# EAGLE library part PIC32MX2XX_44 (library SchmalzHaus)
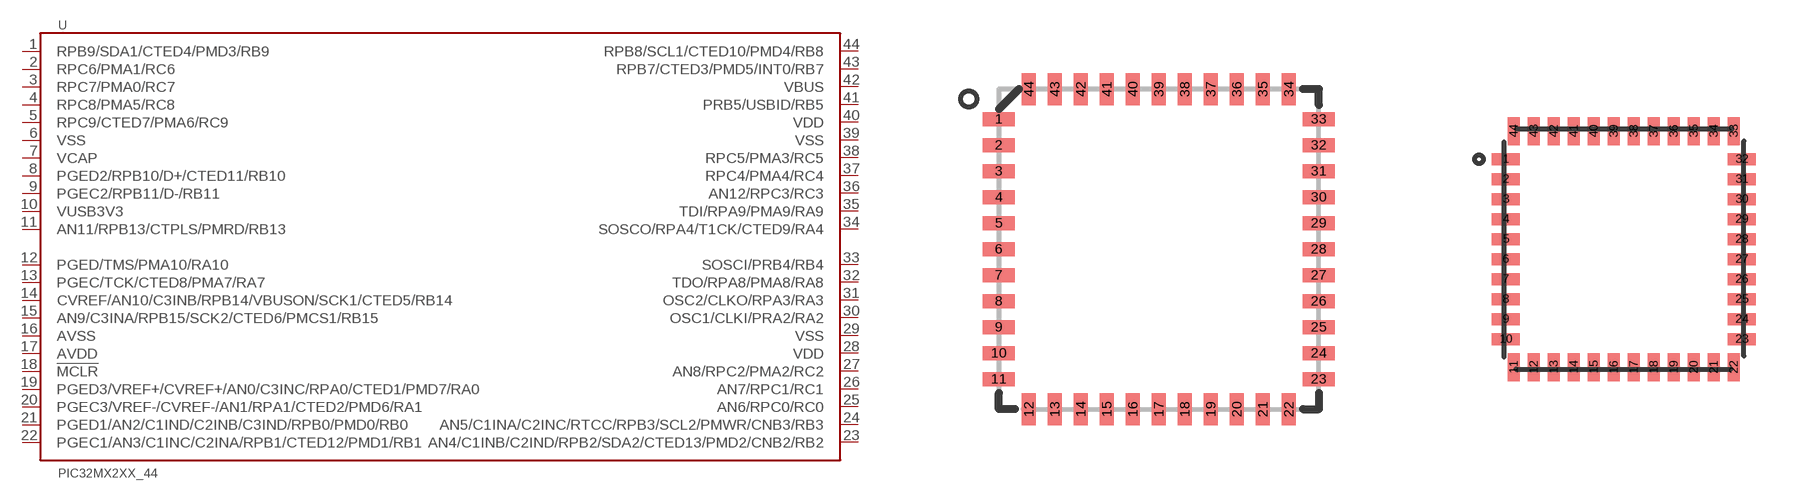
[diagram p1: symbol with the pads of QFN-44-8X8-NOPAD; footprints QFN-44-8X8-NOPAD, VTLA_44]

Designator prefix -

## PIC32MX2XX_44QFN44  [QFN-44-8X8-NOPAD]
1  RPB9/SDA1/CTED4/PMD3/RB9
2  RPC6/PMA1/RC6
3  RPC7/PMA0/RC7
4  RPC8/PMA5/RC8
5  RPC9/CTED7/PMA6/RC9
6  VSS
7  VCAP
8  PGED2/RPB10/D+/CTED11/RB10
9  PGEC2/RPB11/D-/RB11
10  VUSB3V3
11  AN11/RPB13/CTPLS/PMRD/RB13
12  PGED/TMS/PMA10/RA10
13  PGEC/TCK/CTED8/PMA7/RA7
14  CVREF/AN10/C3INB/RPB14/VBUSON/SCK1/CTED5/RB14
15  AN9/C3INA/RPB15/SCK2/CTED6/PMCS1/RB15
16  AVSS
17  AVDD
18  !MCLR!
19  PGED3/VREF+/CVREF+/AN0/C3INC/RPA0/CTED1/PMD7/RA0
20  PGEC3/VREF-/CVREF-/AN1/RPA1/CTED2/PMD6/RA1
21  PGED1/AN2/C1IND/C2INB/C3IND/RPB0/PMD0/RB0
22  PGEC1/AN3/C1INC/C2INA/RPB1/CTED12/PMD1/RB1
23  AN4/C1INB/C2IND/RPB2/SDA2/CTED13/PMD2/CNB2/RB2
24  AN5/C1INA/C2INC/RTCC/RPB3/SCL2/PMWR/CNB3/RB3
25  AN6/RPC0/RC0
26  AN7/RPC1/RC1
27  AN8/RPC2/PMA2/RC2
28  VDD
29  VSS
30  OSC1/CLKI/PRA2/RA2
31  OSC2/CLKO/RPA3/RA3
32  TDO/RPA8/PMA8/RA8
33  SOSCI/PRB4/RB4
34  SOSCO/RPA4/T1CK/CTED9/RA4
35  TDI/RPA9/PMA9/RA9
36  AN12/RPC3/RC3
37  RPC4/PMA4/RC4
38  RPC5/PMA3/RC5
39  VSS
40  VDD
41  PRB5/USBID/RB5
42  VBUS
43  RPB7/CTED3/PMD5/INT0/RB7
44  RPB8/SCL1/CTED10/PMD4/RB8

## PIC32MX2XX_44VLA_44  [VTLA_44]
Pads as for QFN-44-8X8-NOPAD

## Footprint QFN-44-8X8-NOPAD (pad centres in mm)
smd 0.8 x 0.35: 1 -4,3.25; 2 -4,2.6; 3 -4,1.95; 4 -4,1.3; 5 -4,0.65; 6 -4,0; 7 -4,-0.65; 8 -4,-1.3; 9 -4,-1.95; 10 -4,-2.6; 11 -4,-3.25; 23 4,-3.25; 24 4,-2.6; 25 4,-1.95; 26 4,-1.3; 27 4,-0.65; 28 4,0; 29 4,0.65; 30 4,1.3; 31 4,1.95; 32 4,2.6; 33 4,3.25
smd 0.35 x 0.8: 12 -3.25,-4; 13 -2.6,-4; 14 -1.95,-4; 15 -1.3,-4; 16 -0.65,-4; 17 0,-4; 18 0.65,-4; 19 1.3,-4; 20 1.95,-4; 21 2.6,-4; 22 3.25,-4; 34 3.25,4; 35 2.6,4; 36 1.95,4; 37 1.3,4; 38 0.65,4; 39 0,4; 40 -0.65,4; 41 -1.3,4; 42 -1.95,4; 43 -2.6,4; 44 -3.25,4

## Footprint VTLA_44 (pad centres in mm)
smd 0.7 x 0.3: 1 -2.95,2.25; 2 -2.95,1.75; 3 -2.95,1.25; 4 -2.95,0.75; 5 -2.95,0.25; 6 -2.95,-0.25; 7 -2.95,-0.75; 8 -2.95,-1.25; 9 -2.95,-1.75; 10 -2.95,-2.25; 23 2.95,-2.25; 24 2.95,-1.75; 25 2.95,-1.25; 26 2.95,-0.75; 27 2.95,-0.25; 28 2.95,0.25; 29 2.95,0.75; 30 2.95,1.25; 31 2.95,1.75; 32 2.95,2.25
smd 0.3 x 0.7: 11 -2.75,-2.95; 12 -2.25,-2.95; 13 -1.75,-2.95; 14 -1.25,-2.95; 15 -0.75,-2.95; 16 -0.25,-2.95; 17 0.25,-2.95; 18 0.75,-2.95; 19 1.25,-2.95; 20 1.75,-2.95; 21 2.25,-2.95; 22 2.75,-2.95; 33 2.75,2.95; 34 2.25,2.95; 35 1.75,2.95; 36 1.25,2.95; 37 0.75,2.95; 38 0.25,2.95; 39 -0.25,2.95; 40 -0.75,2.95; 41 -1.25,2.95; 42 -1.75,2.95; 43 -2.25,2.95; 44 -2.75,2.95